# EAGLE library part PCF8574PWR (library PCF8574PWR)
Remote I/O Expander 20-Pin TSSOP Texas Instruments PCF8574PWR I/O Expander, 20-Pin TSSOP Source: Datasheet <http://www.ti.com/lit/ds/symlink/pcf8574.pdf>
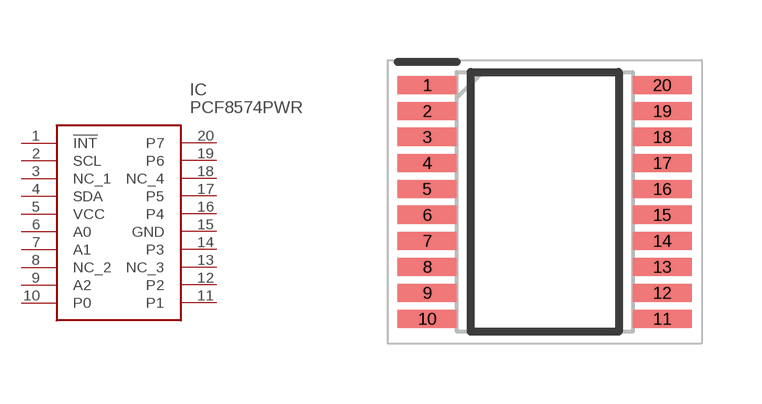
[diagram p0: symbol with the pads of SOP65P640X120-20N; footprint SOP65P640X120-20N]

Designator prefix IC

## PCF8574PWR (Description: Remote I/O Expander 20-Pin TSSOP Texas Instruments PCF8574PWR I/O Expander, 20-Pin TSSOP; Height: 1.2mm; Manufacturer_Name: Texas Instruments; Manufacturer_Part_Number: PCF8574PWR; Mouser_Part_Number: 595-PCF8574PWR; Mouser_Price-Stock: https://www.mouser.co.uk/ProductDetail/Texas-Instruments/PCF8574PWR?qs=X1HXWTtiZ0T3gnyuO%2Fq4CA%3D%3D)  [SOP65P640X120-20N]
1  !INT
2  SCL
3  NC_1
4  SDA
5  VCC
6  A0
7  A1
8  NC_2
9  A2
10  P0
11  P1
12  P2
13  NC_3
14  P3
15  GND
16  P4
17  P5
18  NC_4
19  P6
20  P7

## Footprint SOP65P640X120-20N (pad centres in mm)
PW (R-PDSO-G20)
smd 1.475 x 0.45: 1 -2.938,2.925; 2 -2.938,2.275; 3 -2.938,1.625; 4 -2.938,0.975; 5 -2.938,0.325; 6 -2.938,-0.325; 7 -2.938,-0.975; 8 -2.938,-1.625; 9 -2.938,-2.275; 10 -2.938,-2.925; 11 2.938,-2.925; 12 2.938,-2.275; 13 2.938,-1.625; 14 2.938,-0.975; 15 2.938,-0.325; 16 2.938,0.325; 17 2.938,0.975; 18 2.938,1.625; 19 2.938,2.275; 20 2.938,2.925